# Altium footprint library Transformer.PcbLib: 1 footprints
Each footprint in its own frame and in the unit in brackets; x right, y up, seen from the top. Pads: shape width x height; smd on the part's side, far side on the other; paste and mask are expansions set on the pad; w line width, h text height; cw(c..) or ccw(c..) is an arc to the next point about the centre after c.
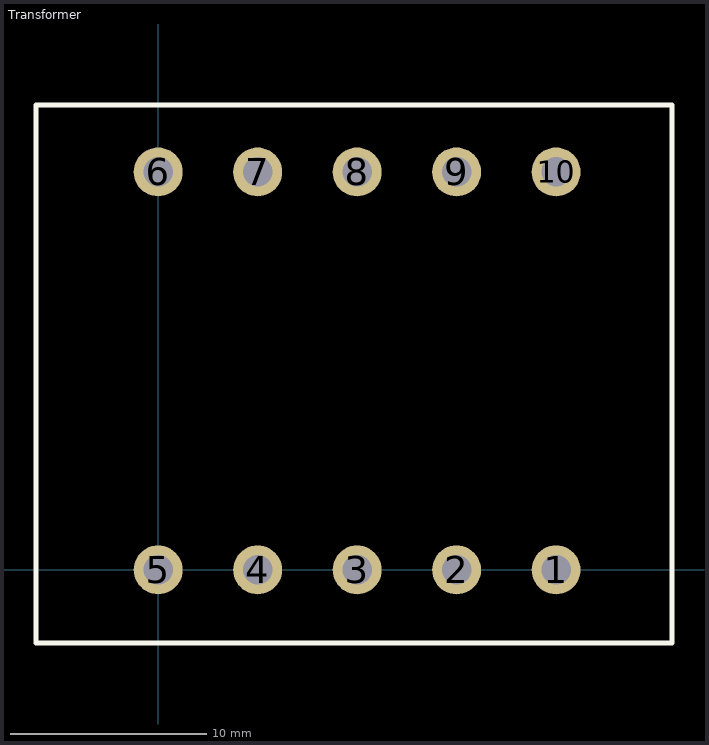
[diagram p0: the footprint, top view; thin cyan lines are the x and y axes]

## Transformer [mm]
height 30
pads (10):
  round 2.5 hole 1.5: 1(20.32,0) 2(15.24,0) 3(10.16,0) 4(5.08,0) 5(0,0) 6(0,20.32) 7(5.08,20.32) 8(10.16,20.32) 9(15.24,20.32) 10(20.32,20.32)
Top Overlay:
  lines w0.254: -6.25,-3.75 26.25,-3.75 26.25,23.75 -6.25,23.75 -6.25,-3.75
3D body: height 30, standoff 0, extent -6.377,-3.877 26.377,23.877